# EAGLE library part AST021-06 (library con-ria)
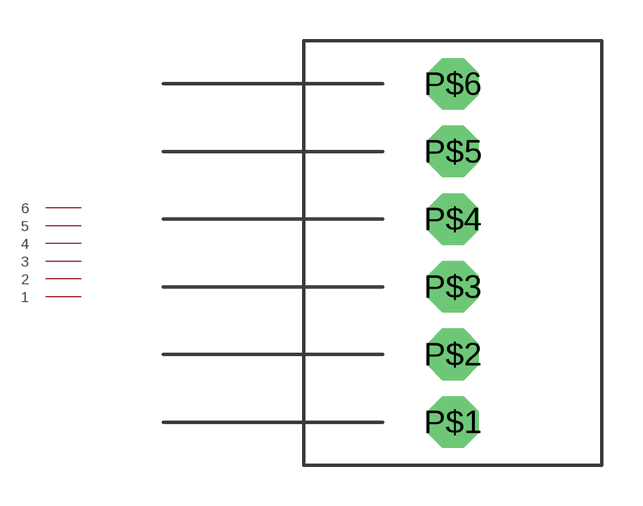
[diagram p0: symbol with the pads of AST021-06; footprint AST021-06]

Designator prefix KL

## AST021-06  [AST021-06]
P$1  1
P$2  2
P$3  3
P$4  4
P$5  5
P$6  6

## Footprint AST021-06 (pad centres in mm)
drill 1.27 octagon: P$1 0,0; P$2 0,2.5; P$3 0,5; P$4 0,7.5; P$5 0,10; P$6 0,12.5